# Altium schematic symbol library SCH - MEMORY -FORESEE FEMDME008G-A8A43.Schlib: 1 symbol
Pins are listed as number, name and electrical type; pins without a type are passive.

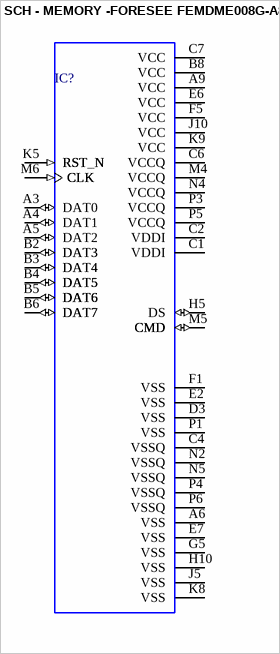
[diagram p0: symbol SCH - MEMORY -FORESEE FEMDME008G-A8A43]

## SCH - MEMORY -FORESEE FEMDME008G-A8A43
designator IC?
footprint EMMC_BGA_153Ball
pins: A1 DAT3 (io), A2 DAT4 (io), A3 DAT0 (io), A4 DAT1 (io), A5 DAT2 (io), A6 VSS (power), A8 DAT7 (io), A9 VCC (power), B2 DAT3 (io), B3 DAT4 (io), B4 DAT5 (io), B5 DAT6 (io), B6 DAT7 (io), B7 DAT7 (io), B8 VCC (power), C1 VDDI (power), C2 VDDI (power), C3 DAT5 (io), C4 VSSQ (power), C5 DAT6 (io), C6 VCCQ (power), C7 VCC (power), D2 DAT5 (io), D3 VSS (power), D4 DAT6 (io), E1 DAT5 (io), E2 VSS (power), E3 DAT6 (io), E6 VCC (power), E7 VSS (power), F1 VSS (power), F2 DAT6 (io), F5 VCC (power), G1 DAT6 (io), G5 VSS (power), H5 DS (io), H10 VSS (power), J1 RST_N (in), J2 RST_N (in), J3 RST_N (in), J5 VSS (power), J10 VCC (power), K1 CLK (in), K2 CLK (in), K3 CLK (in), K5 RST_N (in), K8 VSS (power), K9 VCC (power), L1 CMD (io), L2 CMD (io), L3 CMD (io), M4 VCCQ (power), M5 CMD (io), M6 CLK (in), N2 VSSQ (power), N4 VCCQ (power), N5 VSSQ (power), P1 VSS (power), P3 VCCQ (power), P4 VSSQ (power), P5 VCCQ (power), P6 VSSQ (power)